# EAGLE library part 396_SIRIUS1 (library 396_conn)
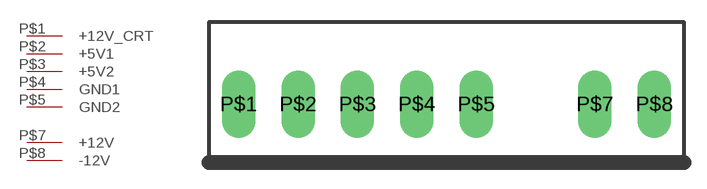
[diagram p8: symbol with the pads of 396_SIRIUS1; footprint 396_SIRIUS1]

Designator prefix -

## 396_SIRIUS1  [396_SIRIUS1]
P$1  +12V_CRT
P$2  +5V1
P$3  +5V2
P$4  GND1
P$5  GND2
P$7  +12V
P$8  -12V

## Footprint 396_SIRIUS1 (pad centres in mm)
drill 1.5 long: P$1 -13.86,0; P$2 -9.9,0; P$3 -5.94,0; P$4 -1.98,0; P$5 1.98,0; P$7 9.9,0; P$8 13.86,0